# Altium footprint library SMD-IC  0607.PcbLib: 125 footprints (part 4 of 8)
Each footprint in its own frame and in the unit in brackets; x right, y up, seen from the top. Pads: shape width x height; smd on the part's side, far side on the other; paste and mask are expansions set on the pad; w line width, h text height; cw(c..) or ccw(c..) is an arc to the next point about the centre after c.
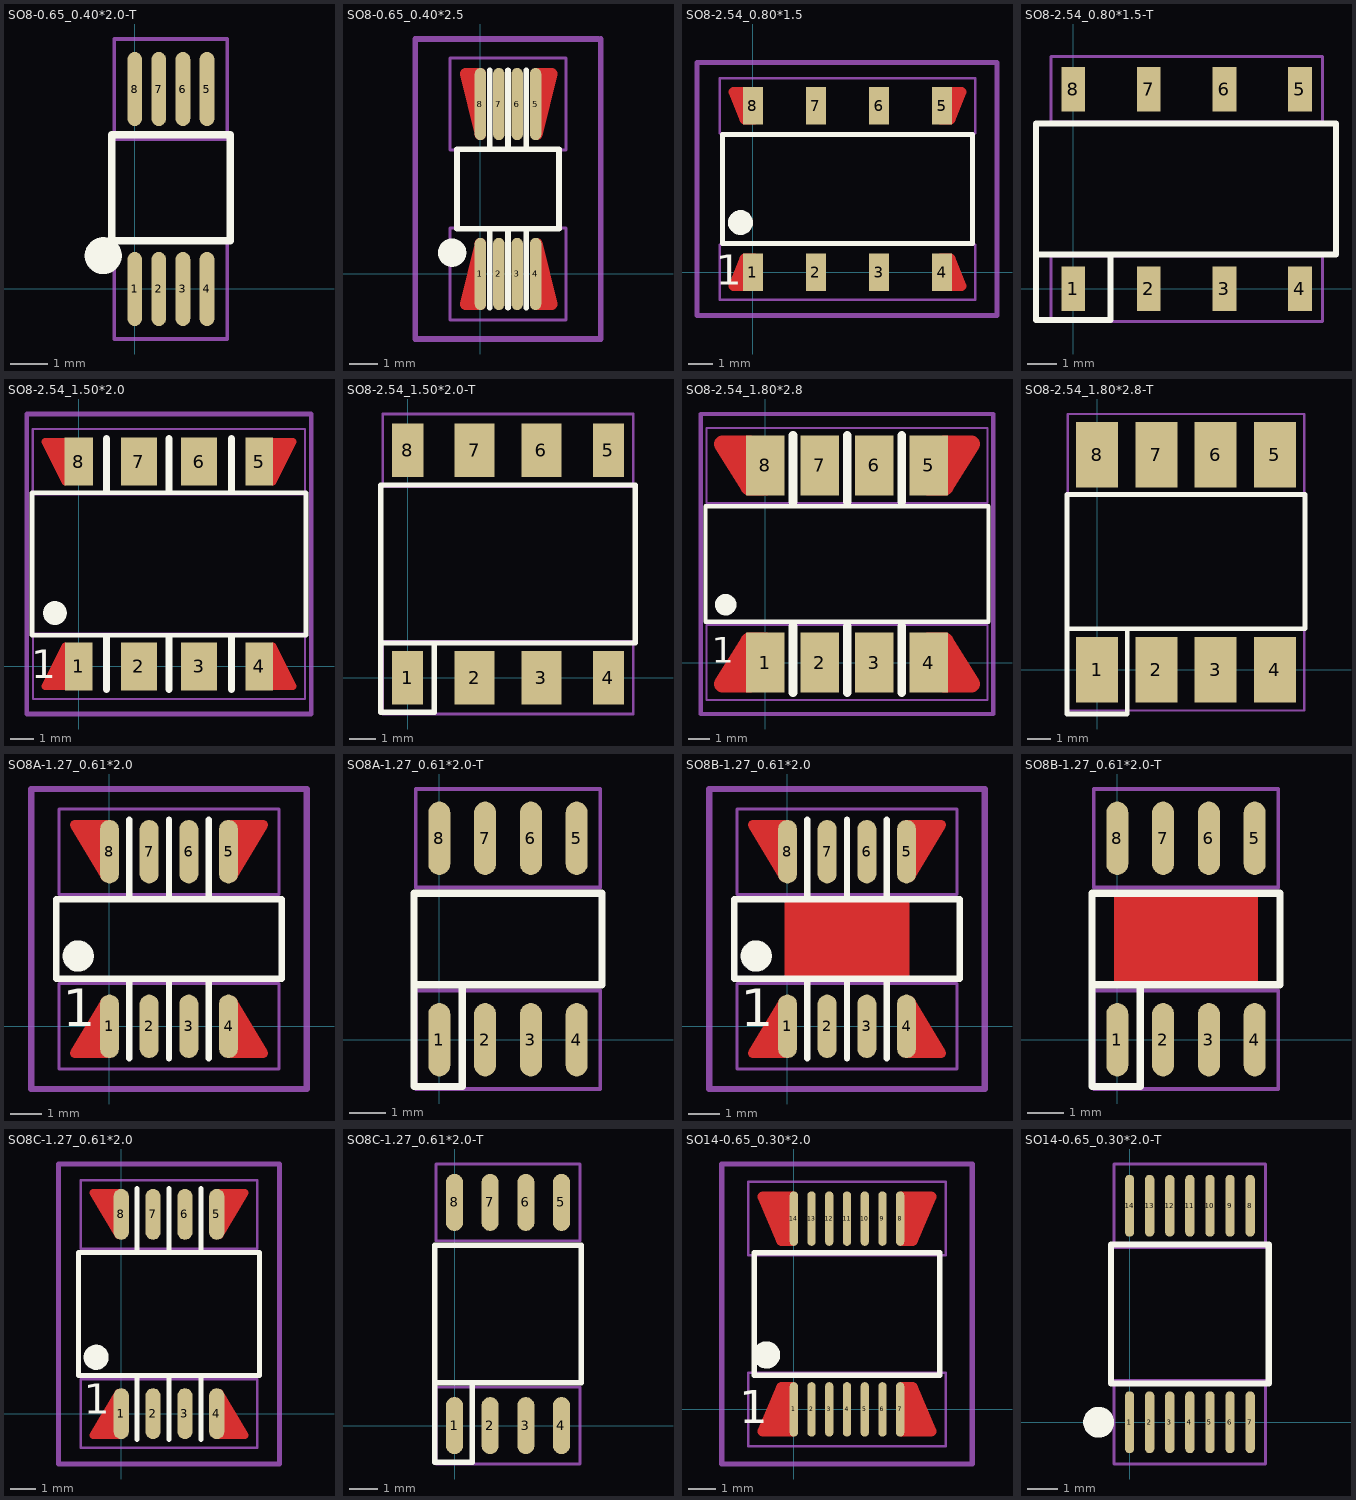
[diagram p3: the footprints below, top view; thin cyan lines are the x and y axes]

## SO8-0.65_0.40*2.0-T [mm]
height 1.2
pads (8):
  oval 0.4x2 smd mask+0.102: 1(0,0) 2(0.65,0) 3(1.3,0) 4(1.95,0) 5(1.95,5.4) 6(1.3,5.4) 7(0.65,5.4) 8(0,5.4)
Top Overlay:
  lines w0.2: -0.625,1.3 2.575,1.3 2.575,4.167 -0.625,4.167 -0.625,1.3
  lines w0.5: -0.605,0.949 ccw(c-0.85,0.9) -0.6,0.9
Mechanical 15:
  lines w0.1: -0.55,-1.35 -0.55,1.35 2.5,1.35 2.5,-1.35 -0.55,-1.35 ; -0.55,4.05 2.5,4.05 2.5,6.75 -0.55,6.75 -0.55,4.05

## SO8-0.65_0.40*2.5 [mm]
height 1.2
pads (8):
  oval 0.4x2.55 smd mask+0.102: 1(0,0) 2(0.65,0) 3(1.3,0) 4(1.95,0) 5(1.95,6) 6(1.3,6) 7(0.65,6) 8(0,6)
Top Layer:
  lines w0.4: -0.3,-0.975 0,0.4 ; -0.3,6.975 0,5.6 ; 0,-1.075 -0.525,-1.075 0,1.075 ; 0,4.925 -0.525,7.075 0,7.075 ; 1.95,0.4 2.25,-0.975 ; 1.95,5.6 2.25,6.975 ; 2,-1.075 2.525,-1.075 2,1.075 ; 2,4.925 2.525,7.075 2,7.075
Top Overlay:
  lines w0.2: 0.325,-1.2 0.325,1.6 ; 0.325,4.4 0.325,7.2 ; 0.975,-1.2 0.975,1.6 ; 0.975,4.4 0.975,7.2 ; 1.625,-1.2 1.625,1.6 ; 1.625,4.4 1.625,7.2 ; -0.825,1.6 -0.825,4.4 2.775,4.4 2.775,1.6 -0.825,1.6
  lines w0.5: -0.755,0.799 ccw(c-1,0.75) -0.75,0.75
Top Solder:
  lines w0.4: 0,-1.075 -0.525,-1.075 0,1.075 ; 0,4.925 -0.525,7.075 0,7.075 ; 2,-1.075 2.525,-1.075 2,1.075 ; 2,0 2.3,-1.075 ; 2,4.925 2.525,7.075 2,7.075 ; 2,5.4 2.3,7.075
Mechanical 8:
  lines w0.2: 4.15,8.3 -2.3,8.3 -2.3,-2.3 4.25,-2.3 4.25,8.3
Mechanical 16:
  lines w0.1: -1.075,-1.625 3.025,-1.625 ; -1.075,-1.617 -1.075,1.625 3.025,1.625 3.025,-1.617 ; -1.075,7.618 -1.075,4.375 3.025,4.375 3.025,7.618 ; -1.075,7.625 3.025,7.625

## SO8-2.54_0.80*1.5 [mm]
height 2.35
pads (8):
  rect 0.8x1.5 smd: 1(0,0) 2(2.54,0) 3(5.08,0) 4(7.62,0) 5(7.62,6.7) 6(5.08,6.7) 7(2.54,6.7) 8(0,6.7)
Top Layer:
  lines w0.4: -0.41,-0.55 -0.41,0.075 ; -0.41,6.625 -0.41,7.25 ; 0.04,-0.55 -0.785,-0.55 -0.335,0.55 0.05,0.55 ; 0.04,7.25 -0.785,7.25 -0.335,6.15 0.05,6.15 ; 7.57,0.55 7.955,0.55 8.405,-0.55 7.58,-0.55 ; 7.57,6.15 7.955,6.15 8.405,7.25 7.58,7.25 ; 8.03,-0.55 8.03,0.075 ; 8.03,6.625 8.03,7.25
Top Overlay:
  circle w0.5: c-0.5,2 r0.25
  lines w0.2: -1.23,1.15 -1.23,5.55 8.85,5.55 8.85,1.15 -1.23,1.15
  text "1" at -1.5,-0.5 h1.2
Top Solder:
  lines w0.4: -0.41,-0.55 -0.41,0.075 ; -0.41,6.625 -0.41,7.25 ; 0.04,-0.55 -0.785,-0.55 -0.335,0.55 0.05,0.55 ; 0.04,7.25 -0.785,7.25 -0.335,6.15 0.05,6.15 ; 7.57,0.55 7.955,0.55 8.405,-0.55 7.58,-0.55 ; 7.57,6.15 7.955,6.15 8.405,7.25 7.58,7.25 ; 8.03,-0.55 8.03,0.075 ; 8.03,6.625 8.03,7.25
Mechanical 8:
  lines w0.2: -2.25,-1.75 -2.25,8.45 9.83,8.45 9.83,-1.75 -2.25,-1.75
Mechanical 16:
  lines w0.1: -1.335,-1.1 -1.335,1.1 8.955,1.1 8.955,-1.1 -1.335,-1.1 ; -1.335,5.6 8.955,5.6 8.955,7.8 -1.335,7.8 -1.335,5.6

## SO8-2.54_0.80*1.5-T [mm]
height 2.35
pads (8):
  rect 0.8x1.5 smd: 1(0,0) 2(2.54,0) 3(5.08,0) 4(7.62,0) 5(7.62,6.7) 6(5.08,6.7) 7(2.54,6.7) 8(0,6.7)
Top Overlay:
  lines w0.2: -1.25,1.15 8.83,1.15 8.83,5.55 -1.25,5.55 -1.25,-1.05 1.25,-1.05 1.25,1.1
Mechanical 15:
  lines w0.1: -0.75,-1.1 8.37,-1.1 8.37,1.1 -0.75,1.1 -0.75,-1.1 ; -0.75,5.6 -0.75,7.8 8.37,7.8 8.37,5.6 -0.75,5.6

## SO8-2.54_1.50*2.0 [mil]
height 151.57
pads (8):
  rect 45.98x80 smd: 1(0,0) 4(300,0) 5(300,340)
  rect 60x80 smd: 2(100,0) 3(200,0) 6(200,340) 7(100,340)
  rect 47.24x80 smd: 8(0,340)
Top Layer:
  lines w11.81: -42.32,-25.59 -42.32,-10.83 ; -42.32,350.83 -42.32,365.59 ; -32.48,-28.54 -32.48,9.84 ; -32.48,330.16 -32.48,368.54 ; 332.48,-28.54 332.48,9.84 ; 332.48,330.16 332.48,368.54 ; 342.32,-25.59 342.32,-10.83 ; 342.32,350.83 342.32,365.59 ; -56.1,-33.46 -22.64,-33.46 -22.64,33.46 -56.1,-33.46 ; -56.1,373.46 -22.64,306.54 -22.64,373.46 -56.1,373.46 ; 322.64,-33.46 322.64,33.46 356.1,-33.46 322.64,-33.46 ; 322.64,306.54 322.64,373.46 356.1,373.46 322.64,306.54
Top Overlay:
  circle w19.68: c-39.37,88.58 r9.84
  lines w7.87: -77.36,51.89 -77.36,288.11 377.36,288.11 377.36,51.89 -77.36,51.89
  lines w11.81: 46.26,-38.66 46.26,49.21 ; 46.26,290.79 46.26,378.66 ; 150,-38.66 150,49.21 ; 150,290.79 150,378.66 ; 253.74,-38.66 253.74,49.21 ; 253.74,290.79 253.74,378.66
  text "1" at -78.74,-19.68 h47.24
Top Solder:
  lines w11.81: -42.32,-25.59 -42.32,-10.83 ; -42.32,350.83 -42.32,365.59 ; -32.48,-28.54 -32.48,9.84 ; -32.48,330.16 -32.48,368.54 ; 332.48,-28.54 332.48,9.84 ; 332.48,330.16 332.48,368.54 ; 342.32,-25.59 342.32,-10.83 ; 342.32,350.83 342.32,365.59 ; -56.1,-33.46 -22.64,33.46 -22.64,-33.46 -56.1,-33.46 ; -56.1,373.46 -22.64,373.46 -22.64,306.54 -56.1,373.46 ; 322.64,-33.46 356.1,-33.46 322.64,33.46 322.64,-33.46 ; 322.64,306.54 356.1,373.46 322.64,373.46 322.64,306.54
Mechanical 8:
  lines w7.87: -86.22,-79.02 -86.22,419.02 386.22,419.02 386.22,-79.02 -86.22,-79.02
Mechanical 16:
  lines w3.94: -75.98,285.87 375.79,285.87 375.79,394.13 -75.98,394.13 -75.98,285.87 ; -75.79,-54.13 -75.79,54.13 375.79,54.13 375.79,-54.13 -75.79,-54.13

## SO8-2.54_1.50*2.0-T [mil]
height 151.57
pads (8):
  rect 45.98x80 smd: 1(0,0) 4(300,0) 5(300,340)
  rect 60x80 smd: 2(100,0) 3(200,0) 6(200,340) 7(100,340)
  rect 47.24x80 smd: 8(0,340)
Top Overlay:
  lines w7.87: -39.96,51.89 339.96,51.89 339.96,288.11 -39.96,288.11 -39.96,-51.46 39.96,-51.46 39.96,51.89
Mechanical 15:
  lines w3.94: -37.4,-54.13 337.4,-54.13 337.4,54.13 -37.4,54.13 -37.4,-54.13 ; -37.4,285.87 -37.4,394.13 337.4,394.13 337.4,285.87 -37.4,285.87

## SO8-2.54_1.80*2.8 [mm]
height 3.85
pads (8):
  rect 1.8x2.8 smd: 1(0,0) 2(2.54,0) 3(5.08,0) 4(7.62,0) 5(7.62,9.2) 6(5.08,9.2) 7(2.54,9.2) 8(0,9.2)
Top Layer:
  lines w0.8: -1.25,-1 -1.25,0 ; -1.25,9.2 -1.25,10.2 ; -0.75,-1 -2,-1 -0.75,1 0,1 ; -0.75,10.2 -2,10.2 -0.75,8.2 0,8.2 ; 7.62,1 8.37,1 9.62,-1 8.37,-1 ; 7.62,8.2 8.37,8.2 9.62,10.2 8.37,10.2 ; 8.87,-1 8.87,0 ; 8.87,9.2 8.87,10.2
Top Overlay:
  circle w0.5: c-1.85,2.7 r0.25
  lines w0.2: -2.79,1.9 -2.79,7.3 10.41,7.3 10.41,1.9 -2.79,1.9
  lines w0.4: 1.29,-1.4 1.29,1.7 ; 1.29,7.5 1.29,10.6 ; 3.83,-1.4 3.83,1.7 ; 3.83,7.5 3.83,10.6 ; 6.37,-1.4 6.37,1.7 ; 6.37,7.5 6.37,10.6
  text "1" at -2.5,0 h1.2
Top Solder:
  lines w0.8: -1,-1 -1,0.5 ; -1,8.7 -1,10.2 ; -0.5,-1 -2,-1 -0.75,1 0,1 ; -0.5,10.2 -2,10.2 -0.75,8.2 0,8.2 ; 7.62,1 8.37,1 9.62,-1 8.12,-1 ; 7.62,8.2 8.37,8.2 9.62,10.2 8.12,10.2 ; 8.62,-1 8.62,0.5 ; 8.62,8.7 8.62,10.2
Mechanical 8:
  lines w0.2: -3.02,-2.4 10.64,-2.4 10.64,11.6 -3.02,11.6 -3.02,-2.4
Mechanical 16:
  lines w0.1: -2.75,-1.75 -2.75,1.75 10.37,1.75 10.37,-1.75 -2.75,-1.75 ; -2.75,7.45 10.37,7.45 10.37,10.95 -2.75,10.95 -2.75,7.45

## SO8-2.54_1.80*2.8-T [mm]
height 3.85
pads (8):
  rect 1.8x2.8 smd: 1(0,0) 2(2.54,0) 3(5.08,0) 4(7.62,0) 5(7.62,9.2) 6(5.08,9.2) 7(2.54,9.2) 8(0,9.2)
Top Overlay:
  lines w0.2: -1.29,1.75 8.91,1.75 8.91,7.5 -1.29,7.5 -1.29,-1.9 1.29,-1.9 1.29,1.75
Mechanical 15:
  lines w0.1: -1.25,-1.75 -1.25,1.75 8.87,1.75 8.87,-1.75 -1.25,-1.75 ; -1.25,7.45 8.87,7.45 8.87,10.95 -1.25,10.95 -1.25,7.45

## SO8A-1.27_0.61*2.0 [mil]
height 59.06
pads (8):
  oval 24x80 smd: 1(0,0) 2(50,0) 3(100,0) 4(150,0) 5(150,220) 6(100,220) 7(50,220) 8(0,220)
Top Layer:
  lines w12: -4.33,32.48 -43.7,-33.66 0,-33.66 ; -4.33,187.52 -43.7,253.66 0,253.66 ; 150,-33.66 193.7,-33.66 154.33,32.48 ; 150,253.66 193.7,253.66 154.33,187.52
  lines w24: -23.62,-23.62 -11.81,-3.94 ; -23.62,243.62 -11.81,223.94 ; 161.81,-3.94 173.62,-23.62 ; 161.81,223.94 173.62,243.62
Top Overlay:
  circle w19.68: c-39.37,88.58 r9.84
  lines w7.87: 25,-40.35 25,60 ; 25,160 25,260.35 ; 75,-40.35 75,60 ; 75,160 75,260.35 ; 125,-40.35 125,60 ; 125,160 125,260.35 ; -66.93,60 216.93,60 216.93,160 -66.93,160 -66.93,60
  text "1" at -59.06,0 h47.24
Top Solder:
  lines w12: -4.33,32.48 -43.7,-33.66 0,-33.66 ; -4.33,187.52 -43.7,253.66 0,253.66 ; 150,-33.66 193.7,-33.66 154.33,32.48 ; 150,253.66 193.7,253.66 154.33,187.52
  lines w24: -23.62,-23.62 -11.81,-3.94 ; -23.62,243.62 -11.81,223.94 ; 161.81,-3.94 173.62,-23.62 ; 161.81,223.94 173.62,243.62
Mechanical 8:
  lines w7.87: -98.43,-78.98 248.43,-78.98 248.43,298.98 -98.43,298.98 -98.43,-78.98
Mechanical 16:
  lines w3.94: -63.48,-53.78 213.48,-53.78 213.48,53.78 -63.48,53.78 -63.48,-53.78 ; -63.48,166.22 -63.48,273.78 213.48,273.78 213.48,166.22 -63.48,166.22

## SO8A-1.27_0.61*2.0-T [mil]
height 59.06
pads (8):
  oval 24x80 smd: 1(0,0) 2(50,0) 3(100,0) 4(150,0) 5(150,220) 6(100,220) 7(50,220) 8(0,220)
Top Overlay:
  lines w7.87: -27.56,60 177.56,60 177.56,160 -27.56,160 -27.56,-51.18 25,-51.18 25,60
Mechanical 15:
  lines w3.94: -25.78,-53.82 -25.78,53.78 175.78,53.78 175.78,-53.82 -25.78,-53.78 ; -25.78,166.22 -25.78,273.82 175.78,273.78 175.78,166.22 -25.78,166.22

## SO8B-1.27_0.61*2.0 [mil]
height 129.92
pads (8):
  oval 24x80 smd: 1(0,0) 2(50,0) 3(100,0) 4(150,0) 5(150,220) 6(100,220) 7(50,220) 8(0,220)
Top Layer:
  rectangle: -3.74,60.79 153.74,159.21
  lines w12: -4.33,32.48 -43.7,-33.66 0,-33.66 ; -4.33,187.52 -43.7,253.66 0,253.66 ; 150,-33.66 193.7,-33.66 154.33,32.48 ; 150,253.66 193.7,253.66 154.33,187.52
  lines w24: -23.62,-23.62 -11.81,-3.94 ; -23.62,243.62 -11.81,223.94 ; 161.81,-3.94 173.62,-23.62 ; 161.81,223.94 173.62,243.62
Top Overlay:
  circle w19.68: c-39.37,88.58 r9.84
  lines w7.87: 25,-40.35 25,60 ; 25,160 25,260.35 ; 75,-40.35 75,60 ; 75,160 75,260.35 ; 125,-40.35 125,60 ; 125,160 125,260.35 ; -66.93,60 -66.93,160 216.93,160 216.93,60 -66.93,60
  text "1" at -59.06,0 h47.24
Top Solder:
  lines w12: -4.33,32.48 -43.7,-33.66 0,-33.66 ; -4.33,187.52 -43.7,253.66 0,253.66 ; 150,-33.66 193.7,-33.66 154.33,32.48 ; 150,253.66 193.7,253.66 154.33,187.52
  lines w24: -23.62,-23.62 -11.81,-3.94 ; -23.62,243.62 -11.81,223.94 ; 161.81,-3.94 173.62,-23.62 ; 161.81,223.94 173.62,243.62
Mechanical 8:
  lines w7.87: -98.43,-78.98 -98.43,298.98 248.43,298.98 248.43,-78.98 -98.43,-78.98
Mechanical 16:
  lines w3.94: -63.48,-53.78 -63.48,53.78 213.48,53.78 213.48,-53.78 -63.48,-53.78 ; -63.48,166.22 213.48,166.22 213.48,273.78 -63.48,273.78 -63.48,166.22

## SO8B-1.27_0.61*2.0-T [mil]
height 129.92
pads (8):
  oval 24x80 smd: 1(0,0) 2(50,0) 3(100,0) 4(150,0) 5(150,220) 6(100,220) 7(50,220) 8(0,220)
Top Layer:
  rectangle: -3.74,60.79 153.74,159.21
Top Overlay:
  lines w7.87: -27.56,60 177.56,60 177.56,160 -27.56,160 -27.56,-51.18 25,-51.18 25,60
Mechanical 15:
  lines w3.94: -25.78,-53.78 175.78,-53.78 175.78,53.78 -25.78,53.78 -25.78,-53.82 ; -25.78,166.22 175.78,166.22 175.78,273.82 -25.78,273.78 -25.78,166.22

## SO8C-1.27_0.61*2.0 [mil]
height 59.06
pads (8):
  oval 24x80 smd: 1(0,0) 2(50,0) 3(100,0) 4(150,0) 5(150,312.99) 6(100,312.99) 7(50,312.99)
  oval 24.02x80 smd: 8(0,312.99)
Top Layer:
  lines w12: -4.33,32.48 -43.7,-33.66 0,-33.66 ; -4.33,280.51 -43.7,346.65 0,346.65 ; 150,-33.66 193.7,-33.66 154.33,32.48 ; 150,346.65 193.7,346.65 154.33,280.51
  lines w24: -23.62,-23.62 -11.81,-3.94 ; -23.62,336.61 -11.81,316.93 ; 161.81,-3.94 173.62,-23.62 ; 161.81,316.93 173.62,336.61
Top Overlay:
  circle w19.68: c-39.37,88.58 r9.84
  lines w7.87: 25,-40.35 25,60 ; 25,252.99 25,353.35 ; 75,-40.35 75,60 ; 75,252.99 75,353.35 ; 125,-40.35 125,60 ; 125,252.99 125,353.35 ; -66.93,60 -66.93,252.99 216.93,252.99 216.93,60 -66.93,60
  text "1" at -59.06,0 h47.24
Top Solder:
  lines w12: -4.33,32.48 -43.7,-33.66 0,-33.66 ; -4.33,280.51 -43.7,346.65 0,346.65 ; 150,-33.66 193.7,-33.66 154.33,32.48 ; 150,346.65 193.7,346.65 154.33,280.51
  lines w24: -23.62,-23.62 -11.81,-3.94 ; -23.62,336.61 -11.81,316.93 ; 161.81,-3.94 173.62,-23.62 ; 161.81,316.93 173.62,336.61
Mechanical 8:
  lines w7.87: -98.43,-78.98 248.43,-78.98 248.43,391.97 -98.43,391.97 -98.43,-78.98
Mechanical 16:
  lines w3.94: -63.48,-53.78 213.48,-53.78 213.48,53.78 -63.48,53.78 -63.48,-53.78 ; -63.48,259.21 213.48,259.21 213.48,366.77 -63.48,366.77 -63.48,259.21

## SO8C-1.27_0.61*2.0-T [mil]
height 59.06
pads (8):
  oval 24x80 smd: 1(0,0) 2(50,0) 3(100,0) 4(150,0) 5(150,312.99) 6(100,312.99) 7(50,312.99)
  oval 24.02x80 smd: 8(0,312.99)
Top Overlay:
  lines w7.87: -27.56,60 177.56,60 177.56,252.99 -27.56,252.99 -27.56,-51.18 25,-51.18 25,60
Mechanical 15:
  lines w3.94: -25.78,366.77 175.78,366.77 ; -25.78,366.81 -25.78,259.21 175.78,259.21 175.78,366.81 ; -25.78,-53.82 -25.78,53.78 175.78,53.78 175.78,-53.82 -25.78,-53.78

## SO14-0.65_0.30*2.0 [mm]
pads (14):
  oval 0.3x2 smd: 1(0,0) 2(0.65,0) 3(1.3,0) 4(1.95,0) 5(2.6,0) 6(3.25,0) 7(3.9,0) 8(3.9,7) 9(3.25,7) 10(2.6,7) 11(1.95,7) 12(1.3,7) 13(0.65,7) 14(0,7)
Top Layer:
  lines w0.4: -0.7,-0.7 -0.7,0.175 ; -0.7,6.825 -0.7,7.7 ; -0.05,-0.8 -1.125,-0.8 -0.45,0.8 -0.05,0.8 ; -0.05,6.2 -0.45,6.2 -1.125,7.8 -0.05,7.8 ; 3.95,-0.8 5.025,-0.8 4.35,0.8 3.95,0.8 ; 3.95,6.2 4.35,6.2 5.025,7.8 3.95,7.8 ; 4.6,-0.7 4.6,0.175 ; 4.6,6.825 4.6,7.7
  lines w0.5: -0.25,-0.7 -0.25,0.6 ; -0.25,6.4 -0.25,7.7 ; 4.15,-0.7 4.15,0.6 ; 4.15,6.4 4.15,7.7
Top Overlay:
  circle w0.5: c-1,2 r0.25
  lines w0.2: -1.45,1.25 5.35,1.25 5.35,5.75 -1.45,5.75 -1.45,1.25
  text "1" at -2,-0.5 h1.2
Top Solder:
  lines w0.4: -0.45,0.8 -1.125,-0.8 -0.05,-0.8 ; -0.45,6.2 -1.125,7.8 -0.05,7.8 ; -0.35,0.8 -0.05,0.8 ; -0.35,6.2 -0.05,6.2 ; 3.95,-0.8 5.025,-0.8 4.35,0.8 ; 3.95,0.8 4.25,0.8 ; 3.95,6.2 4.25,6.2 ; 3.95,7.8 5.025,7.8 4.35,6.2
  lines w0.8: -0.425,-0.6 -0.425,0.3 ; -0.425,6.7 -0.425,7.6 ; 4.325,-0.6 4.325,0.3 ; 4.325,6.7 4.325,7.6
Mechanical 8:
  lines w0.2: -2.65,-2 6.55,-2 6.55,9 -2.65,9 -2.65,-2
Mechanical 16:
  lines w0.1: -1.675,-1.35 5.575,-1.35 5.575,1.35 -1.675,1.35 -1.675,-1.35 ; -1.675,5.65 -1.675,8.35 5.575,8.35 5.575,5.65 -1.675,5.65

## SO14-0.65_0.30*2.0-T [mm]
pads (14):
  oval 0.3x2 smd: 1(0,0) 2(0.65,0) 3(1.3,0) 4(1.95,0) 5(2.6,0) 6(3.25,0) 7(3.9,0) 8(3.9,7) 9(3.25,7) 10(2.6,7) 11(1.95,7) 12(1.3,7) 13(0.65,7) 14(0,7)
Top Overlay:
  circle w0.5: c-1,0 r0.25
  lines w0.2: -0.6,1.25 -0.6,5.75 4.5,5.75 4.5,1.25 -0.6,1.25
Mechanical 15:
  lines w0.1: -0.5,-1.35 -0.5,1.35 4.4,1.35 4.4,-1.35 -0.5,-1.35 ; -0.5,5.65 -0.5,8.35 4.4,8.35 4.4,5.65 -0.5,5.65